# Altium footprint library DSUB9-M90.PcbLib: 1 footprints
Each footprint in its own frame and in the unit in brackets; x right, y up, seen from the top. Pads: shape width x height; smd on the part's side, far side on the other; paste and mask are expansions set on the pad; w line width, h text height; cw(c..) or ccw(c..) is an arc to the next point about the centre after c.
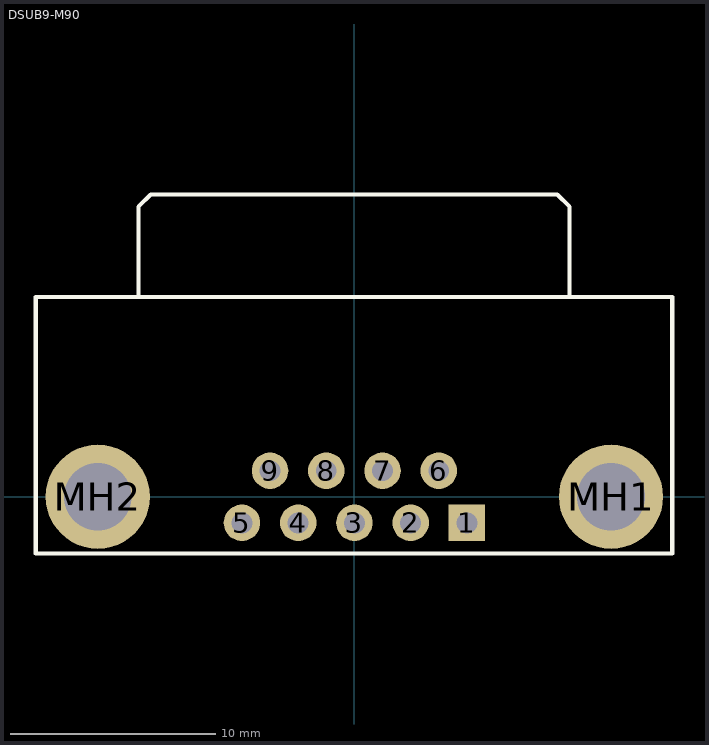
[diagram p0: the footprint, top view; thin cyan lines are the x and y axes]

## DSUB9-M90 [mil]
pads (11):
  rect 70x70 hole 40: 1(215.75,-50)
  round 70 hole 40: 2(107.87,-50) 3(0,-50) 4(-107.87,-50) 5(-215.75,-50) 6(161.81,50) 7(53.94,50) 8(-53.94,50) 9(-161.81,50)
  round 200 hole 130: MH1(492.13,0) MH2(-492.13,0)
TopOverlay:
  lines w8: -414.17,383.07 -414.17,556.3 -390.55,579.92 388.98,579.92 412.6,556.3 412.6,383.07 ; -611.02,-109.06 609.45,-109.06 609.45,383.07 -611.02,383.07 -611.02,-109.06